# Altium schematic symbol library prozy-ALL.SchLib: 264 symbols (part 2 of 2)
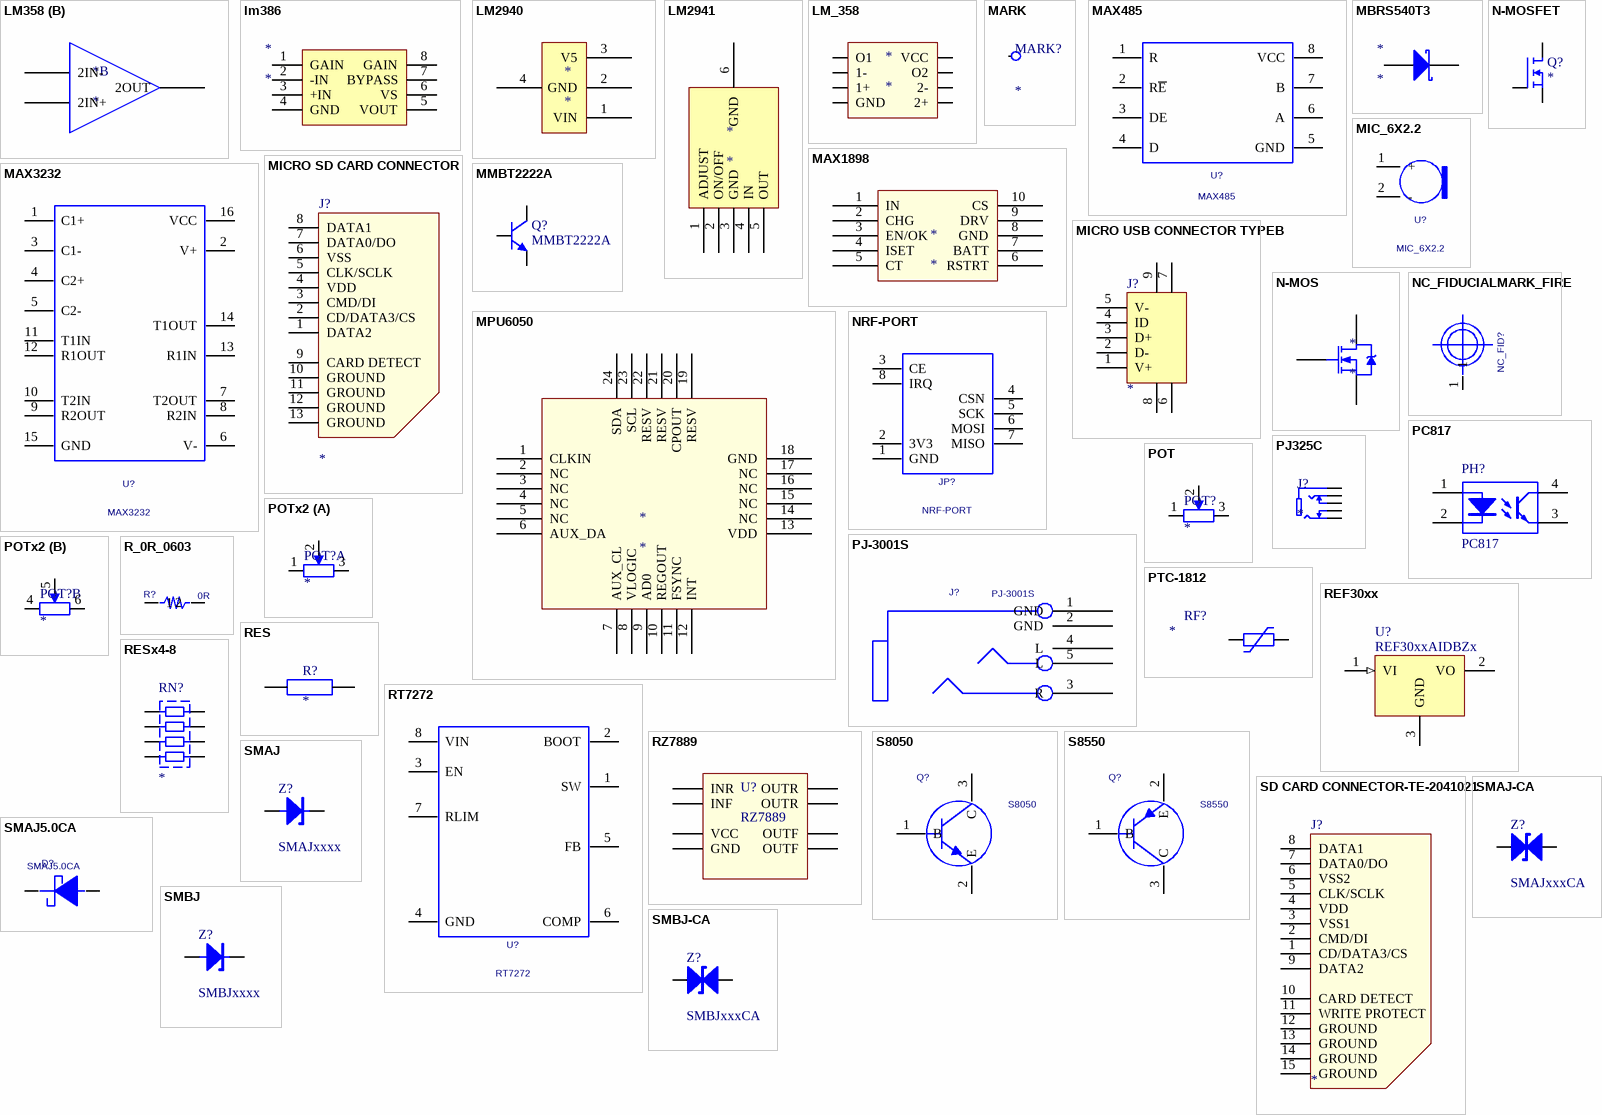
[diagram p10: symbols LM358 to SMBJ-CA]

## LM358
designator *
footprint lm358SOP8
footprint LM358
part A pins: 1 1OUT, 2 1IN-, 3 1IN+, 4 GND, 8 VCC
part B pins: 5 2IN+, 6 2IN-, 7 2OUT

## lm386
designator *
footprint sop8-lm386
pins: 1 GAIN, 2 -IN, 3 +IN, 4 GND, 5 VOUT, 6 VS, 7 BYPASS, 8 GAIN

## LM2940
designator *
footprint LM2950
pins: 1 VIN, 2 GND, 3 V5, 4 GND

## LM2941
designator *
footprint LM2941
pins: 1 ADJUST, 2 ON/OFF, 3 GND, 4 IN, 5 OUT, 6 GND

## LM_358
designator *
footprint LM358
pins: 1 O1, 2 1-, 3 1+, 4 GND, 5 2+, 6 2-, 7 O2, 8 VCC

## MARK
designator MARK?
Mark
footprint MARK (Mark)
pins: 1

## MAX485
designator U?
PCB DECAL: MAX485
footprint MAX485
pins: 1 R, 2 R~{E}, 3 DE, 4 D, 5 GND, 6 A, 7 B, 8 VCC

## MAX1898
designator *
footprint MAX1898SOP10
pins: 1 IN, 2 CHG, 3 EN/OK, 4 ISET, 5 CT, 6 RSTRT, 7 BATT, 8 GND, 9 DRV, 10 CS

## MAX3232
designator U?
PCB DECAL: MAX3232
footprint MAX3232
pins: 1 C1+, 2 V+, 3 C1-, 4 C2+, 5 C2-, 6 V-, 7 T2OUT, 8 R2IN, 9 R2OUT, 10 T2IN, 11 T1IN, 12 R1OUT, 13 R1IN, 14 T1OUT, 15 GND, 16 VCC

## MBRS540T3
designator *
footprint SMC-CASE403
pins: A, K

## MIC_6X2.2
designator U?
PCB DECAL: MIC_6X2.2
footprint MIC_6X2.2
pins: 1 +, 2 -

## MICRO SD CARD CONNECTOR
designator J?
Micro SD Card Connector
footprint MICRO SD CARD CONNECTOR (Micro SD Card Connector)
pins: 1 DATA2, 2 CD/DATA3/CS, 3 CMD/DI, 4 VDD (power), 5 CLK/SCLK, 6 VSS (power), 7 DATA0/DO, 8 DATA1, 9 CARD DETECT, 10 GROUND, 11 GROUND, 12 GROUND, 13 GROUND

## MICRO USB CONNECTOR TYPEB
designator J?
USB Connector
footprint MICRO USB CONNECTOR TYPEB-ST-MC-5F-01 (Micro USB Connector, Type B, ST-MC-5F-01)
pins: 1 V+, 2 D-, 3 D+, 4 ID, 5 V-, 6, 7, 8, 9

## MMBT2222A
designator Q?
NPN Bipolar Transistor
footprint SOT-23 (SOT-23-3)
pins: 1 B, 2 E, 3 C

## MPU6050
designator *
pins: 1 CLKIN, 2 NC, 3 NC, 4 NC, 5 NC, 6 AUX_DA, 7 AUX_CL, 8 VLOGIC, 9 AD0, 10 REGOUT, 11 FSYNC, 12 INT, 13 VDD, 14 NC, 15 NC, 16 NC, 17 NC, 18 GND, 19 RESV, 20 CPOUT, 21 RESV, 22 RESV, 23 SCL, 24 SDA

## N-MOS
designator *
footprint LR7843
footprint POWERPAK SOP8
footprint SOT23 (SOT23, 3-Leads, Body 3.1x2.6mm (max), Pitch 0.95mm, IPC Medium Density)
pins: 1 G, 2 D, 3 S

## N-MOSFET
designator Q?
N-Channel MOSFET
pins: 1 G, 2 D, 3 S
1 alternate drawing of the same symbol

## NC_FIDUCIALMARK_FIRE
designator NC_FID?  (value not drawn)
FIDUCIAL MARK; Serial Number: NF; Priority: 1; PCB DECAL: NC_FIDUCIALMARK_FIRE
footprint NC_FIDUCIALMARK_FIRE
pins: 1

## NRF-PORT
designator JP?
PCB DECAL: 8PIN_2.54_SMD; Manufacture 1 P/N: NRF-PORT
footprint 8PIN_2.54_SMD
pins: 1 GND, 2 3V3, 3 CE, 4 CSN, 5 SCK, 6 MOSI, 7 MISO, 8 IRQ

## PC817
designator PH?
Optoisolator
footprint DIP-4 (Dual In-line Package, 4PIN)
footprint SOP-4 (2.54MM) (SOIC, 4PIN)
pins: 1 A, 2 K, 3 E, 4 C

## PJ325C
designator J?
Audio Jacks
footprint PJ325C (3.5 mm Audio Jacks)
pins: 1, 2, 3, 4, 5

## PJ-3001S
designator J?
Manufacturer #1 PN: PJ-313D; Value: PJ-313D; PCB DECAL: PJ-3001S
footprint PJ-3001S
pins: 1 GND, 2 GND, 3 R, 4 L, 5 L

## POT
designator POT?
Potentiometer
footprint PTD901-20 (Potentiometer, Shaft Length 20mm, BOURNS)
footprint 3314J (Square Trimming Potentiometer)
pins: 1, 2, 3

## POTx2
designator POT?
Potentiometer
footprint PTD902-20 (Potentiometer, Shaft Length 20mm, BOURNS)
part A pins: 1, 2, 3
part B pins: 4, 5, 6

## PTC-1812
designator RF?
PTC
footprint 1812 (SMD, 1812)
pins: 1, 2

## R_0R_0603
designator R?, comment value 0R  (hidden comment: R0603)
PCB DECAL: R_0603
footprint R_0603
pins: 1, 2

## REF30xx
designator U?, comment REF30xxAIDBZx
Voltage Reference
footprint SOT-23 (SOT-23-3)
pins: 1 VI (in), 2 VO (power), 3 GND (power)

## RES
designator R?
footprint R
pins: 1, 2

## RESx4-8
designator RN?
Resistor Array
footprint RES-0603X4 (Resistor, Array, SMD, 0603*4)
pins: 1, 2, 3, 4, 5, 6, 7, 8

## RT7272
designator U?
PCB DECAL: RT7272
footprint RT7272
pins: 1 SW, 2 BOOT, 3 EN, 4 GND, 5 FB, 6 COMP, 7 RLIM, 8 VIN

## RZ7889
designator U?
footprint sop8-lm386
pins: 1 INR, 2 INF, 3 GND, 4 VCC, 5 OUTF, 6 OUTF, 7 OUTR, 8 OUTR

## S8050
designator Q?
NPN; PCB DECAL: SOT-23; Manufacturer #2: 8050
footprint SOT-23
pins: 1 B, 2 E, 3 C

## S8550
designator Q?
NPN; PCB DECAL: SOT-23; Manufacturer #2: 8050
footprint SOT-23
pins: 1 B, 2 E, 3 C

## SD CARD CONNECTOR-TE-2041021
designator J?
SD Card Connector
footprint SD CARD CONNECTOR-TE-2041021 (SD Card Connector, TE, 2041021)
pins: 1 CD/DATA3/CS, 2 CMD/DI, 3 VSS1 (power), 4 VDD (power), 5 CLK/SCLK, 6 VSS2 (power), 7 DATA0/DO, 8 DATA1, 9 DATA2, 10 CARD DETECT, 11 WRITE PROTECT, 12 GROUND, 13 GROUND, 14 GROUND, 15 GROUND

## SMAJ
designator Z?, comment SMAJxxxx
TVS
footprint SMA (DO-214AC)
pins: 1 A, 2 C

## SMAJ5.0CA
designator D?
PCB DECAL: DO-214; Value: SMAJ5.0CA
footprint DO-214
pins: 1 +, 2 -

## SMAJ-CA
designator Z?, comment SMAJxxxCA
TVS
footprint SMA-NON POLARIZED (DO-214AC)
pins: 1 A, 2 C

## SMBJ
designator Z?, comment SMBJxxxx
TVS
footprint SMB (DO-214AA)
pins: 1 A, 2 C

## SMBJ-CA
designator Z?, comment SMBJxxxCA
TVS
footprint SMB-NON POLARIZED (DO-214AA)
pins: 1 A, 2 C

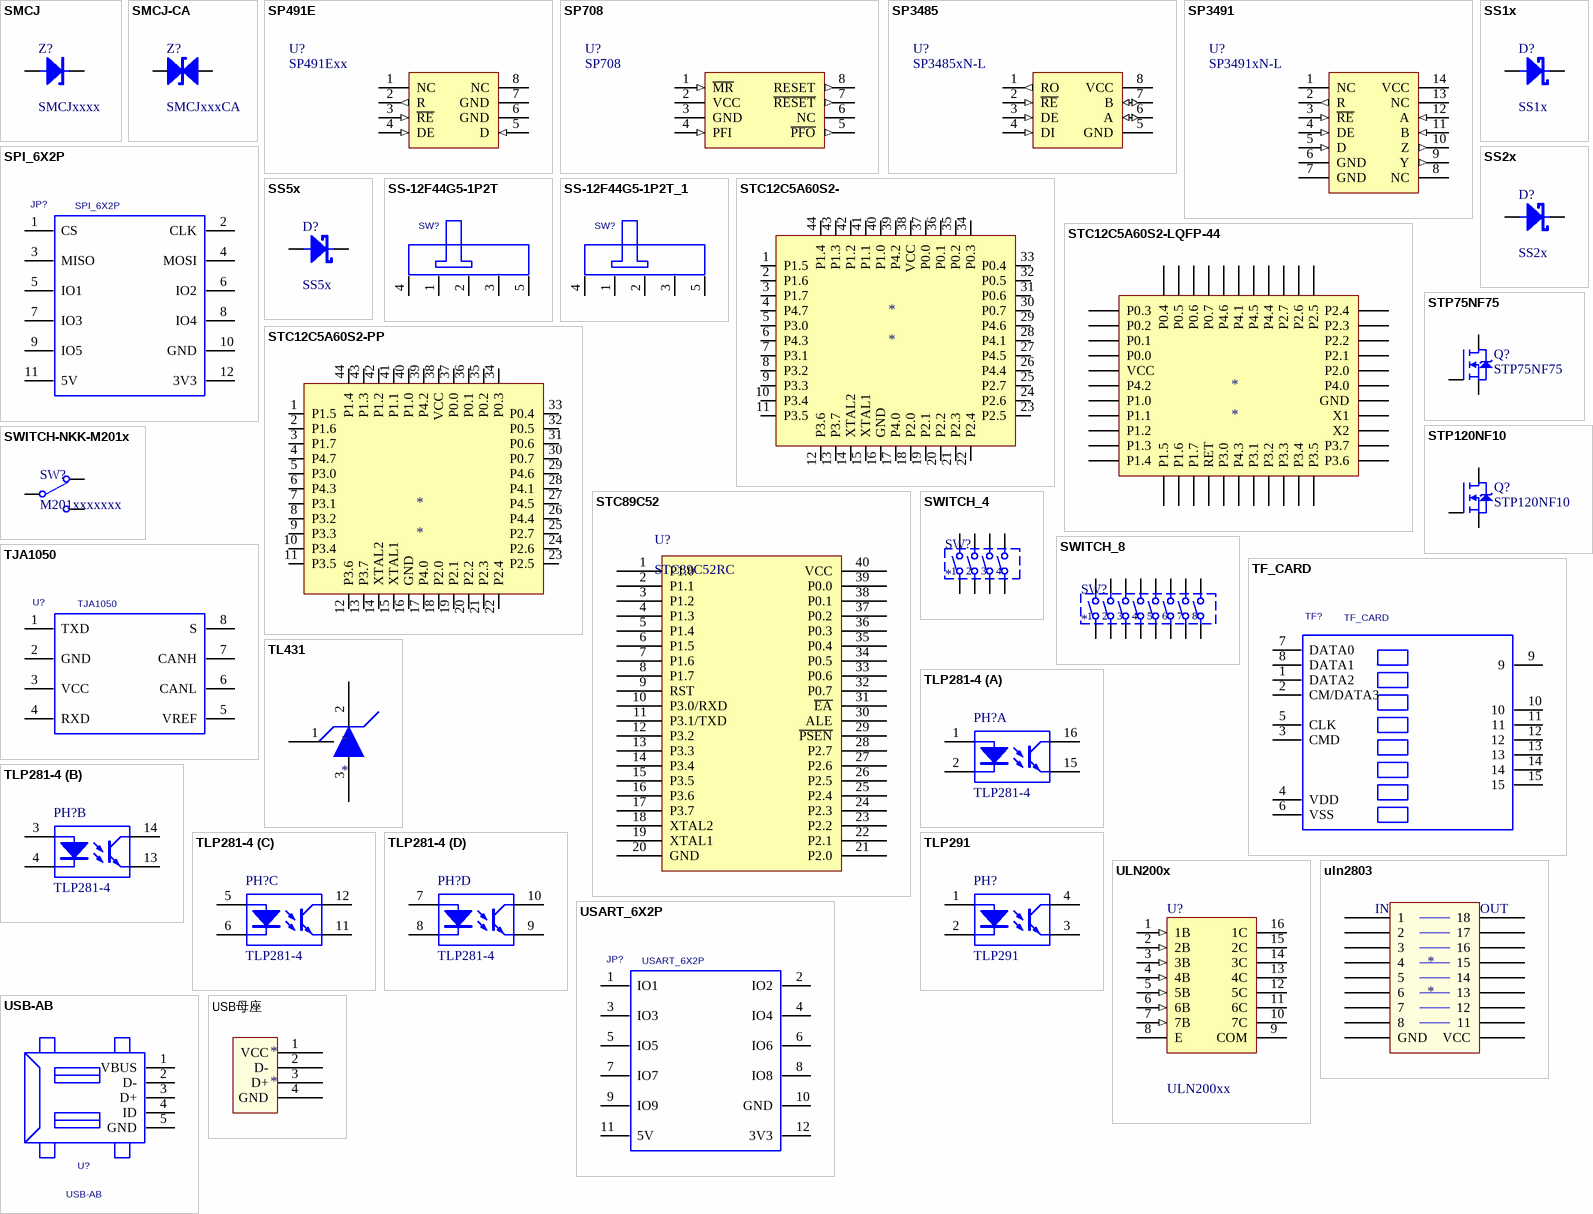
[diagram p8: symbols SMCJ to USB母座]

## SMCJ
designator Z?, comment SMCJxxxx
TVS
footprint SMC (DO-214AB)
pins: 1 A, 2 C

## SMCJ-CA
designator Z?, comment SMCJxxxCA
TVS
footprint SMC-NON POLARIZED (DO-214AB)
pins: 1 A, 2 C

## SP491E
designator U?, comment SP491Exx
RS-485 Transceivers
footprint SO-14 (SOIC, 14PIN)
pins: 1 NC, 2 R (out), 3 ~{RE} (in), 4 DE (in), 5 D (in), 6 GND (power), 7 GND (power), 8 NC

## SP708
designator U?
IC
footprint SO-8 (SOIC, 8PIN)
pins: 1 ~{MR} (in), 2 VCC (power), 3 GND (power), 4 PFI (in), 5 ~{PFO} (out), 6 NC, 7 ~{RESET} (out), 8 RESET (out)

## SP3485
designator U?, comment SP3485xN-L
RS-485 Transceivers
footprint SO-8 (SOIC, 8PIN)
pins: 1 RO (out), 2 ~{RE} (in), 3 DE (in), 4 DI (in), 5 GND (power), 6 A (io), 7 B (io), 8 VCC (power)

## SP3491
designator U?, comment SP3491xN-L
RS-485/RS-422 Transceivers
footprint SO-14 (SOIC, 14PIN)
pins: 1 NC, 2 R (out), 3 ~{RE} (in), 4 DE (in), 5 D (in), 6 GND (power), 7 GND (power), 8 NC, 9 Y (out), 10 Z (out), 11 B (in), 12 A (in), 13 NC, 14 VCC (power)

## SPI_6X2P
designator JP?
PCB DECAL: 12PIN_2.54_SMD; Manufacturer #1 PN: SPI_6X2P; Value: SPI_6X2P
footprint 12PIN_2.54_SMD
pins: 1 CS, 2 CLK, 3 MISO, 4 MOSI, 5 IO1, 6 IO2, 7 IO3, 8 IO4, 9 IO5, 10 GND, 11 5V, 12 3V3

## SS1x
designator D?
Schottky Diode
footprint SMA (DO-214AC)
pins: 1 A, 2 C

## SS2x
designator D?
Schottky Diode
footprint SMB (DO-214AA)
pins: 1 A, 2 C

## SS5x
designator D?
Schottky Diode
footprint SMC (DO-214AB)
pins: 1 A, 2 C

## SS-12F44G5-1P2T
designator SW?  (value not drawn)
PCB DECAL: SS-12F44G5-1P2T
footprint SS-12F44G5-1P2T
pins: 1, 2, 3, 4, 5

## SS-12F44G5-1P2T_1
designator SW?, comment SS-12F44G5-1P2T  (value not drawn)
PCB DECAL: SS-12F44G5-1P2T
footprint SS-12F44G5-1P2T
pins: 1, 2, 3, 4, 5

## STC12C5A60S2-
designator *
footprint LQFP480-
pins: 1 P1.5 (io), 2 P1.6 (io), 3 P1.7 (io), 4 P4.7 (io), 5 P3.0 (io), 6 P4.3 (io), 7 P3.1 (io), 8 P3.2 (io), 9 P3.3 (io), 10 P3.4 (io), 11 P3.5 (io), 12 P3.6 (io), 13 P3.7 (io), 14 XTAL2, 15 XTAL1, 16 GND (power), 17 P4.0 (io), 18 P2.0 (io), 19 P2.1 (io), 20 P2.2 (io), 21 P2.3 (io), 22 P2.4 (io), 23 P2.5 (io), 24 P2.6 (io), 25 P2.7 (io), 26 P4.4 (io), 27 P4.5 (io), 28 P4.1 (io), 29 P4.6 (io), 30 P0.7 (io), 31 P0.6 (io), 32 P0.5 (io), 33 P0.4 (io), 34 P0.3 (io), 35 P0.2 (io), 36 P0.1 (io), 37 P0.0 (io), 38 VCC (power), 39 P4.2 (io), 40 P1.0 (io), 41 P1.1 (io), 42 P1.2 (io), 43 P1.3 (io), 44 P1.4 (io)

## STC12C5A60S2-LQFP-44
designator *
footprint LCC44
pins: 1 P1.5, 2 P1.6, 3 P1.7, 4 RET, 5 P3.0, 6 P4.3, 7 P3.1, 8 P3.2, 9 P3.3, 10 P3.4, 11 P3.5, 12 P3.6, 13 P3.7, 14 X2, 15 X1, 16 GND, 17 P4.0, 18 P2.0, 19 P2.1, 20 P2.2, 21 P2.3, 22 P2.4, 23 P2.5, 24 P2.6, 25 P2.7, 26 P4.4, 27 P4.5, 28 P4.1, 29 P4.6, 30 P0.7, 31 P0.6, 32 P0.5, 33 P0.4, 34 P0.3, 35 P0.2, 36 P0.1, 37 P0.0, 38 VCC, 39 P4.2, 40 P1.0, 41 P1.1, 42 P1.2, 43 P1.3, 44 P1.4

## STC12C5A60S2-PP
designator *
footprint QLFP_44
pins: 1 P1.5 (io), 2 P1.6 (io), 3 P1.7 (io), 4 P4.7 (io), 5 P3.0 (io), 6 P4.3 (io), 7 P3.1 (io), 8 P3.2 (io), 9 P3.3 (io), 10 P3.4 (io), 11 P3.5 (io), 12 P3.6 (io), 13 P3.7 (io), 14 XTAL2, 15 XTAL1, 16 GND (power), 17 P4.0 (io), 18 P2.0 (io), 19 P2.1 (io), 20 P2.2 (io), 21 P2.3 (io), 22 P2.4 (io), 23 P2.5 (io), 24 P2.6 (io), 25 P2.7 (io), 26 P4.4 (io), 27 P4.5 (io), 28 P4.1 (io), 29 P4.6 (io), 30 P0.7 (io), 31 P0.6 (io), 32 P0.5 (io), 33 P0.4 (io), 34 P0.3 (io), 35 P0.2 (io), 36 P0.1 (io), 37 P0.0 (io), 38 VCC (power), 39 P4.2 (io), 40 P1.0 (io), 41 P1.1 (io), 42 P1.2 (io), 43 P1.3 (io), 44 P1.4 (io)

## STC89C52
designator U?, comment STC89C52RC
footprint DIP40
pins: 1 P1.0, 2 P1.1, 3 P1.2, 4 P1.3, 5 P1.4, 6 P1.5, 7 P1.6, 8 P1.7, 9 RST, 10 P3.0/RXD, 11 P3.1/TXD, 12 P3.2, 13 P3.3, 14 P3.4, 15 P3.5, 16 P3.6, 17 P3.7, 18 XTAL2, 19 XTAL1, 20 GND, 21 P2.0, 22 P2.1, 23 P2.2, 24 P2.3, 25 P2.4, 26 P2.5, 27 P2.6, 28 P2.7, 29 ~{PSEN}, 30 ALE, 31 ~{EA}, 32 P0.7, 33 P0.6, 34 P0.5, 35 P0.4, 36 P0.3, 37 P0.2, 38 P0.1, 39 P0.0, 40 VCC
1 alternate drawing of the same symbol

## STP75NF75
designator Q?
N-Channel MOSFET
footprint TO-220-V-1.1 (TO-220, 3PIN)
footprint TO-220-YK-1.1 (TO-220 & YK20)
pins: 1 G, 2 D, 3 S
1 alternate drawing of the same symbol

## STP120NF10
designator Q?
N-Channel MOSFET
footprint TO-220-V-1.1 (TO-220, 3PIN, Vertical)
footprint TO-220-YK-1.1 (TO-220 & YK20, 3PIN, Vertical)
pins: 1 G, 2 D, 3 S
1 alternate drawing of the same symbol

## SWITCH-NKK-M201x
designator SW?, comment M201xxxxxxx
Switch
footprint TOGGLE SWITCH-M201x (Toggle switch, SPST, NKK)
pins: 1, 2, 3

## SWITCH_4
designator SW?
Switch
footprint MCEMR-04-T (DIP SWITCH)
pins: 1, 2, 3, 4, 5, 6, 7, 8

## SWITCH_8
designator SW?
Switch
footprint MCEMR-08-T (DIP SWITCH)
pins: 1, 2, 3, 4, 5, 6, 7, 8, 9, 10, 11, 12, 13, 14, 15, 16

## TF_CARD
designator TF?
Manufacturer #1 PN: MicroSD座/手机卡存储卡座; PCB DECAL: TF_CARD
footprint TF_CARD
pins: 1 DATA2, 2 CM/DATA3, 3 CMD, 4 VDD, 5 CLK, 6 VSS, 7 DATA0, 8 DATA1, 9, 10, 11, 12, 13, 14, 15

## TJA1050
designator U?
can,sop8; Manufacturer #1 PN: TJA1050; Value: TJA1050
pins: 1 TXD, 2 GND, 3 VCC, 4 RXD, 5 VREF, 6 CANL, 7 CANH, 8 S

## TL431
designator *
footprint SOT23-N
pins: 1, 2, 3

## TLP281-4
designator PH?
Optoisolator
footprint SO-16-TL281-4 (SOIC, 16PIN, TL281-4)
part A pins: 1 A, 2 K, 15 E, 16 C
part B pins: 3 A, 4 K, 13 E, 14 C
part C pins: 5 A, 6 K, 11 E, 12 C
part D pins: 7 A, 8 K, 9 E, 10 C

## TLP291
designator PH?
Optoisolator
footprint SO-4 (SOIC, 4PIN)
pins: 1 A, 2 K, 3 E, 4 C

## ULN200x
designator U?, comment ULN200xx
Darlington Transistor Arrays
footprint SO-16 (SOIC, 16PIN)
footprint DIP-16 (Dual In-line Package, 16PIN)
pins: 1 1B (in), 2 2B (in), 3 3B (in), 4 4B (in), 5 5B (in), 6 6B (in), 7 7B (in), 8 E (power), 9 COM, 10 7C (oc), 11 6C (oc), 12 5C (oc), 13 4C (oc), 14 3C (oc), 15 2C (oc), 16 1C (oc)

## uln2803
designator *
footprint ULN2803 DIP
pins: 1, 2, 3, 4, 5, 6, 7, 8, 9 GND, 10 VCC, 11, 12, 13, 14, 15, 16, 17, 18
text: IN; OUT

## USART_6X2P
designator JP?
I2C_6X2P; PCB DECAL: 12PIN_2.54_SMD; Manufacturer #1 PN: I2C_6X2P; Value: I2C_6X2P
footprint 12PIN_2.54_SMD
pins: 1 IO1, 2 IO2, 3 IO3, 4 IO4, 5 IO5, 6 IO6, 7 IO7, 8 IO8, 9 IO9, 10 GND, 11 5V, 12 3V3

## USB-AB
designator U?
pins: 1 VBUS, 2 D-, 3 D+, 4 ID, 5 GND

## USB母座
designator *
footprint USB母座
pins: 1 VCC, 2 D-, 3 D+, 4 GND

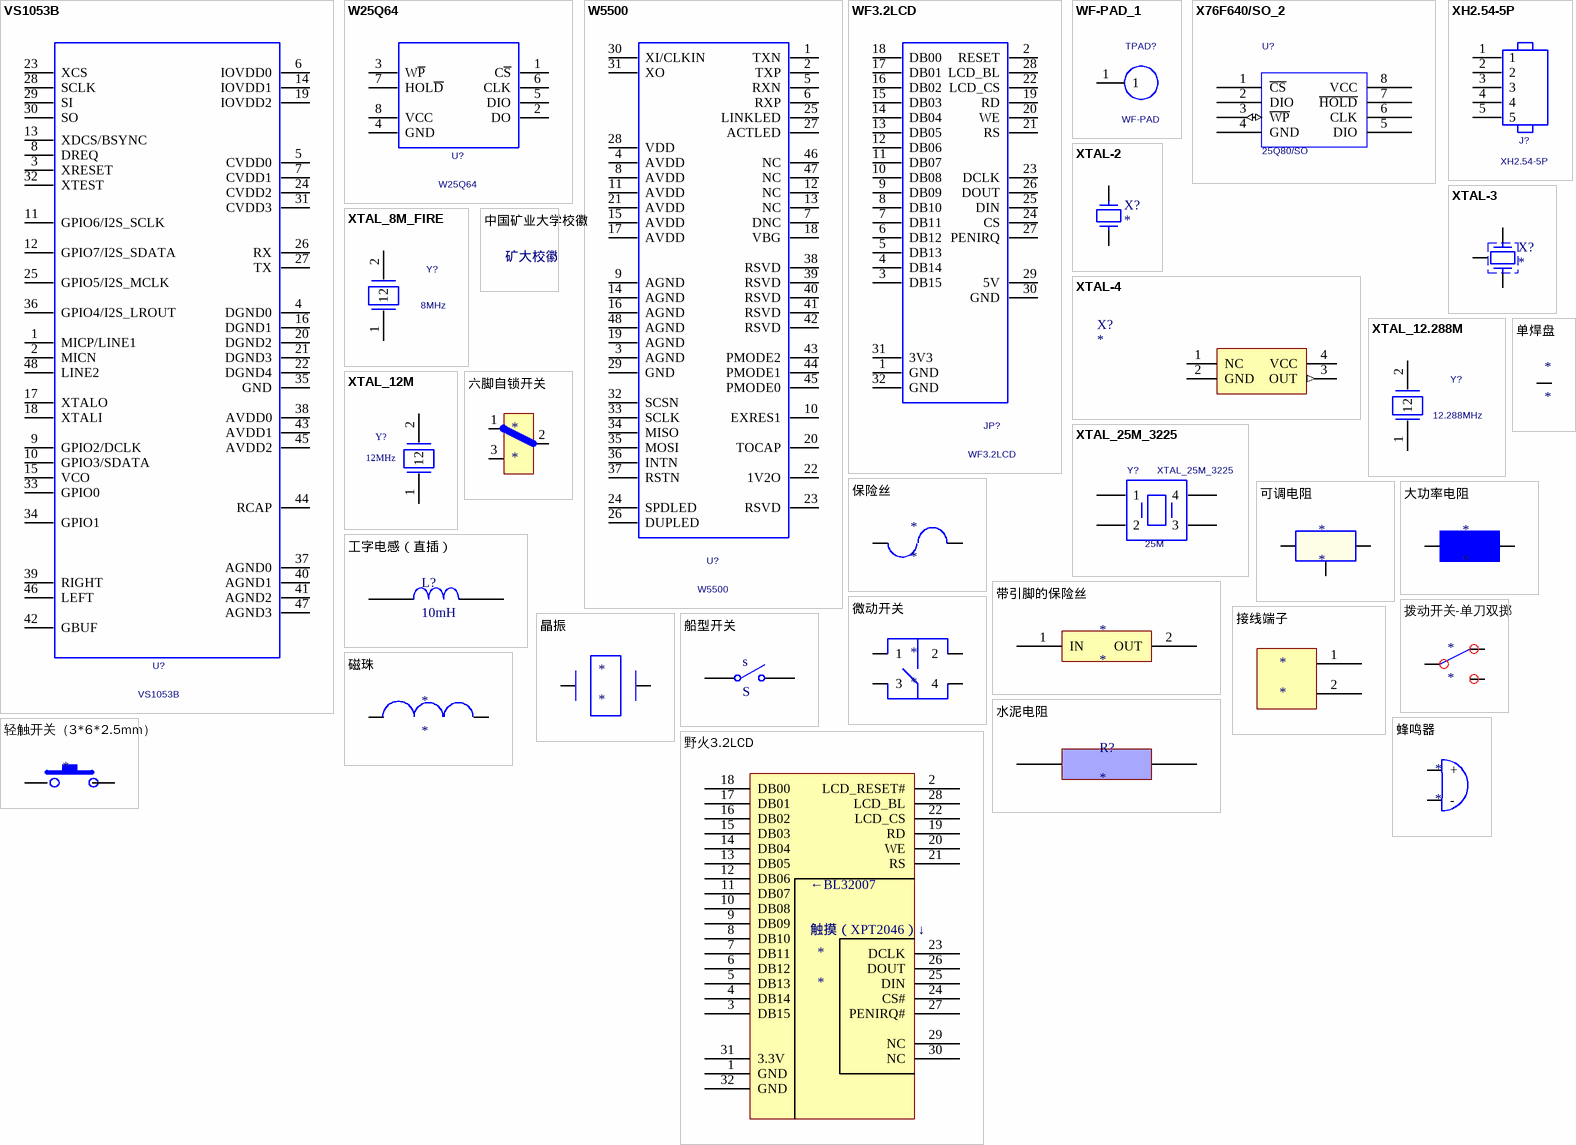
[diagram p9: symbols VS1053B to 野火3.2LCD]

## VS1053B
designator U?
PCB DECAL: LQFP48_7X7X05P
footprint LQFP48_7X7X05P
pins: 1 MICP/LINE1, 2 MICN, 3 XRESET, 4 DGND0, 5 CVDD0, 6 IOVDD0, 7 CVDD1, 8 DREQ, 9 GPIO2/DCLK, 10 GPIO3/SDATA, 11 GPIO6/I2S_SCLK, 12 GPIO7/I2S_SDATA, 13 XDCS/BSYNC, 14 IOVDD1, 15 VCO, 16 DGND1, 17 XTALO, 18 XTALI, 19 IOVDD2, 20 DGND2, 21 DGND3, 22 DGND4, 23 XCS, 24 CVDD2, 25 GPIO5/I2S_MCLK, 26 RX, 27 TX, 28 SCLK, 29 SI, 30 SO, 31 CVDD3, 32 XTEST, 33 GPIO0, 34 GPIO1, 35 GND, 36 GPIO4/I2S_LROUT, 37 AGND0, 38 AVDD0, 39 RIGHT, 40 AGND1, 41 AGND2, 42 GBUF, 43 AVDD1, 44 RCAP, 45 AVDD2, 46 LEFT, 47 AGND3, 48 LINE2

## W25Q64
designator U?
PCB DECAL: SO8WB
footprint SO8WB
pins: 1 C~{S}, 2 DO, 3 W~{P}, 4 GND, 5 DIO, 6 CLK, 7 HOL~{D}, 8 VCC

## W5500
designator U?
PCB DECAL: W5500
footprint W5500
pins: 1 TXN, 2 TXP, 3 AGND, 4 AVDD, 5 RXN, 6 RXP, 7 DNC, 8 AVDD, 9 AGND, 10 EXRES1, 11 AVDD, 12 NC, 13 NC, 14 AGND, 15 AVDD, 16 AGND, 17 AVDD, 18 VBG, 19 AGND, 20 TOCAP, 21 AVDD, 22 1V2O, 23 RSVD, 24 SPDLED, 25 LINKLED, 26 DUPLED, 27 ACTLED, 28 VDD, 29 GND, 30 XI/CLKIN, 31 XO, 32 SCSN, 33 SCLK, 34 MISO, 35 MOSI, 36 INTN, 37 RSTN, 38 RSVD, 39 RSVD, 40 RSVD, 41 RSVD, 42 RSVD, 43 PMODE2, 44 PMODE1, 45 PMODE0, 46 NC, 47 NC, 48 AGND

## WF3.2LCD
designator JP?
320*240,ILI9341,touch; Manufacturer #1: Wild Fire Team; PCB DECAL: 2X16X2.54MM; Manufacturer #1 PN: WF3.2LCD
footprint 2X16X2.54MM
pins: 1 GND, 2 RESET, 3 DB15, 4 DB14, 5 DB13, 6 DB12, 7 DB11, 8 DB10, 9 DB09, 10 DB08, 11 DB07, 12 DB06, 13 DB05, 14 DB04, 15 DB03, 16 DB02, 17 DB01, 18 DB00, 19 RD, 20 WE, 21 RS, 22 LCD_CS, 23 DCLK, 24 CS, 25 DIN, 26 DOUT, 27 PENIRQ, 28 LCD_BL, 29 5V, 30 GND, 31 3V3, 32 GND

## WF-PAD_1
designator TPAD?, comment WF-PAD
pins: 1

## X76F640/SO_2
designator U?  value 25Q80/SO  (hidden comment: X76F640/SO_2)
PCB DECAL: SOP8; Source_Path: D:\FIRE_LAYOUT\ESP8266.DSN
footprint SOP8
pins: 1 ~{CS}, 2 DIO, 3 ~{WP} (io), 4 GND, 5 DIO, 6 CLK, 7 ~{HOLD}, 8 VCC

## XH2.54-5P
designator J?
PCB DECAL: XH2.54-5P
footprint XH2.54-5P
pins: 1, 2, 3, 4, 5

## XTAL-2
designator X?
Crystal
footprint HC49-SMD (CRYSTAL, SMD)
footprint HC49S (CRYSTAL)
pins: 1, 2

## XTAL-3
designator X?
Crystal
footprint XTAL-3X8 (Crystal)
pins: 1, 2, 3

## XTAL-4
designator X?
Oscillator
footprint XTAL-5.0X3.2 (Oscillator)
pins: 1 NC, 2 GND (power), 3 OUT (out), 4 VCC (power)

## XTAL_8M_FIRE
designator Y?  value 8MHz  (hidden comment: XTAL_8M_FIRE)
CRYSTAL; PCB DECAL: CRYSTAL_SMD_FIRE
footprint CRYSTAL_SMD_FIRE
pins: 1, 2

## XTAL_12.288M
designator Y?  value 12.288MHz  (hidden comment: XTAL_12.288M)
PCB DECAL: CRYSTAL_SMD_FIRE
footprint CRYSTAL_SMD_FIRE
pins: 1, 2

## XTAL_12M
designator Y?  value 12MHz  (hidden comment: XTAL_12M)
PCB DECAL: XTAL_SMD
footprint XTAL_SMD
pins: 1, 2

## XTAL_25M_3225
designator Y?  value 25M
PCB DECAL: 3225
footprint 3225
pins: 1, 2, 3, 4

## 中国矿业大学校徽
designator *  (value not drawn)
footprint 中国矿业大学校徽
text: 矿大校徽

## 保险丝
designator *
footprint 保险丝
pins: 1 24, 2 25

## 六脚自锁开关
designator *
footprint 六脚自锁开关
pins: 1, 2, 3, 4 hidden, 5 hidden, 6 hidden

## 单焊盘
designator *
footprint 单焊盘
pins: 1

## 可调电阻
designator *
footprint 可调电阻
pins: 1 vcc, 2 vcc, 3 vcc

## 大功率电阻
designator *
footprint 大功率电阻
pins: 1 26, 2 27

## 工字电感（直插）
designator L?, comment 10mH
footprint 工字电感
pins: 1 vcc, 2 vcc

## 带引脚的保险丝
designator *
footprint 3*10mm带引脚保险丝
pins: 1 IN, 2 OUT

## 微动开关
designator *
footprint 微动开关
pins: 1, 2, 3, 4

## 拨动开关-单刀双掷
designator *
footprint MSK-12D19 1P2T
pins: 1, 2, 3

## 接线端子
designator *
footprint 接线端子
pins: 1, 2

## 晶振
designator *
footprint 晶振
footprint 3*8 无源晶振
footprint XTAL-SMD
pins: 1, 2

## 水泥电阻
designator R?
footprint 水泥电阻
pins: 1, 2

## 磁珠
designator *
pins: 1 11, 2 12

## 船型开关
designator s, comment S
footprint 船型开关13*19
pins: 1 COMMON, 2 NO

## 蜂鸣器
designator *
footprint 蜂鸣器
pins: 0 +, 1 -

## 轻触开关（3*6*2.5mm）
designator *  (value not drawn)
footprint 轻触开关（3*6*2.5mm）
pins: 1, 2

## 野火3.2LCD
designator *
footprint 野火3.2液晶屏
pins: 1 GND, 2 LCD_RESET#, 3 DB15, 4 DB14, 5 DB13, 6 DB12, 7 DB11, 8 DB10, 9 DB09, 10 DB08, 11 DB07, 12 DB06, 13 DB05, 14 DB04, 15 DB03, 16 DB02, 17 DB01, 18 DB00, 19 RD, 20 WE, 21 RS, 22 LCD_CS, 23 DCLK, 24 CS#, 25 DIN, 26 DOUT, 27 PENIRQ#, 28 LCD_BL, 29 NC, 30 NC, 31 3.3V, 32 GND
text: ←BL32007; 触摸（XPT2046）↓